# EAGLE library part LTC3411 (library Octanis1_EPS)
LINEAR TECHNOLOGY - LTC3411AEMS#PBF - CONV. BUCK SYNCH 1.25A 4MHZ 10MSOP
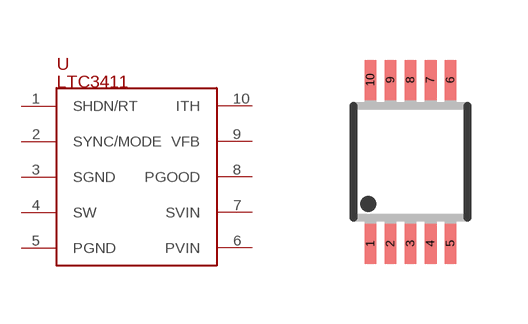
[diagram p1: symbol with the pads of MSOP10; footprint MSOP10]

Designator prefix -

## LTC3411  [MSOP10]
1  SHDN/RT
2  SYNC/MODE
3  SGND
4  SW
5  PGND
6  PVIN
7  SVIN
8  PGOOD
9  VFB
10  ITH

## Footprint MSOP10 (pad centres in mm)
10 Lead Platic MSOP Source: http://www.linear.com .. LT1996
smd 0.3 x 1: 1 -1,-2.05; 2 -0.5,-2.05; 3 0,-2.05; 4 0.5,-2.05; 5 1,-2.05; 6 1,2.05; 7 0.5,2.05; 8 0,2.05; 9 -0.5,2.05; 10 -1,2.05